# EAGLE library part PTOP-16 (library matt con-amp)
AMP connector
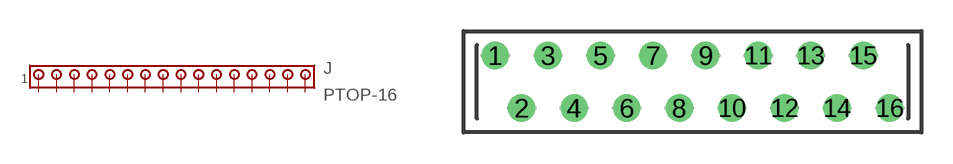
[diagram p165: symbol with the pads of PTOP-16; footprint PTOP-16]

Designator prefix J

## PTOP-16  [PTOP-16]
1  1  pas
2  2  pas
3  3  pas
4  4  pas
5  5  pas
6  6  pas
7  7  pas
8  8  pas
9  9  pas
10  10  pas
11  11  pas
12  12  pas
13  13  pas
14  14  pas
15  15  pas
16  16  pas

## Footprint PTOP-16 (pad centres in mm)
AMP connector
drill 0.813 round: 1 -9.525,1.27; 2 -8.255,-1.27; 3 -6.985,1.27; 4 -5.715,-1.27; 5 -4.445,1.27; 6 -3.175,-1.27; 7 -1.905,1.27; 8 -0.635,-1.27; 9 0.635,1.27; 10 1.905,-1.27; 11 3.175,1.27; 12 4.445,-1.27; 13 5.715,1.27; 14 6.985,-1.27; 15 8.255,1.27; 16 9.525,-1.27